# EAGLE library part ARDUINO_PRO_MINI_5V (library XYKlib)
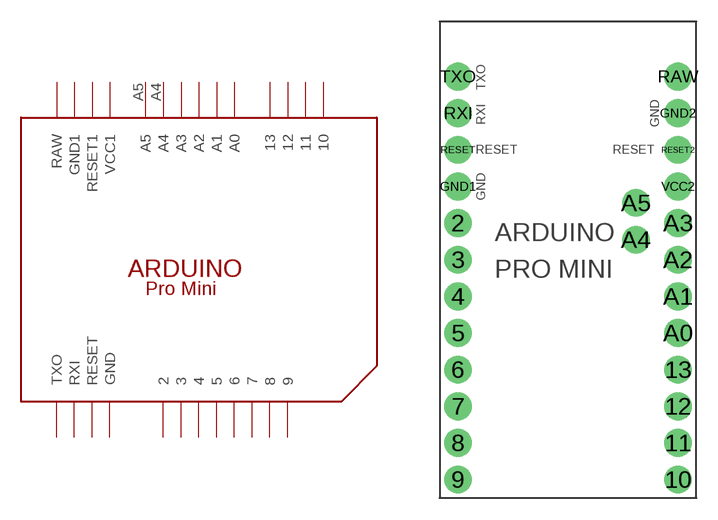
[diagram p0: symbol with the pads of ARDUINO_PRO_MINI_5V; footprint ARDUINO_PRO_MINI_5V]

Designator prefix -

## ARDUINO_PRO_MINI_5V  [ARDUINO_PRO_MINI_5V]
2  2
3  3
4  4
5  5
6  6
7  7
8  8
9  9
10  10
11  11
12  12
13  13
A0  A0
A1  A1
A2  A2
A3  A3
A4  A4
A5  A5
GND1  GND1
GND2  GND
RAW  RAW
RESET  RESET
RESET2  RESET1
RXI  RXI
TXO  TXO
VCC2  VCC1

## Footprint ARDUINO_PRO_MINI_5V (pad centres in mm)
drill 1.1 pad 1.93: 2 -5.08,17.78; 3 -5.08,15.24; 4 -5.08,12.7; 5 -5.08,10.16; 6 -5.08,7.62; 7 -5.08,5.08; 8 -5.08,2.54; 9 -5.08,0; 10 10.16,0; 11 10.16,2.54; 12 10.16,5.08; 13 10.16,7.62; A0 10.16,10.16; A1 10.16,12.7; A2 10.16,15.24; A3 10.16,17.78; GND1 -5.08,20.32; GND2 10.16,25.4; RAW 10.16,27.94; RESET -5.08,22.86; RESET2 10.16,22.86; RXI -5.08,25.4; TXO -5.08,27.94; VCC2 10.16,20.32
drill 1 pad 1.905: A4 7.239,16.637; A5 7.239,19.177